# EAGLE library part R9A07G063U02GBG#BC0 (library R9A07G063U02GBG#BC0)
The RZ/A3UL allows customers to achieve the full potential of a real-time operating system (RTOS) while leveraging the performance boost provided by the 64-bit Arm Cortex-A55 CPU core with a maximum operating frequency of 1 GHz. It integrates an Octal-SPI memory interface that facilitates simpler and more compact board designs. In addition, it includes versions that support a DDR3L/DDR4 memory interface to enable connection of high-speed DRAM.Using an RTOS allows systems to start up instantly, in less tha Source: Datasheet <https://www.renesas.com/us/en/products/microcontrollers-microprocessors/rz-mpus/rza3ul-powerful-1ghz-64-bit-mpus-rtos-support-enables-high-definition-hmi-and-quick-startup>
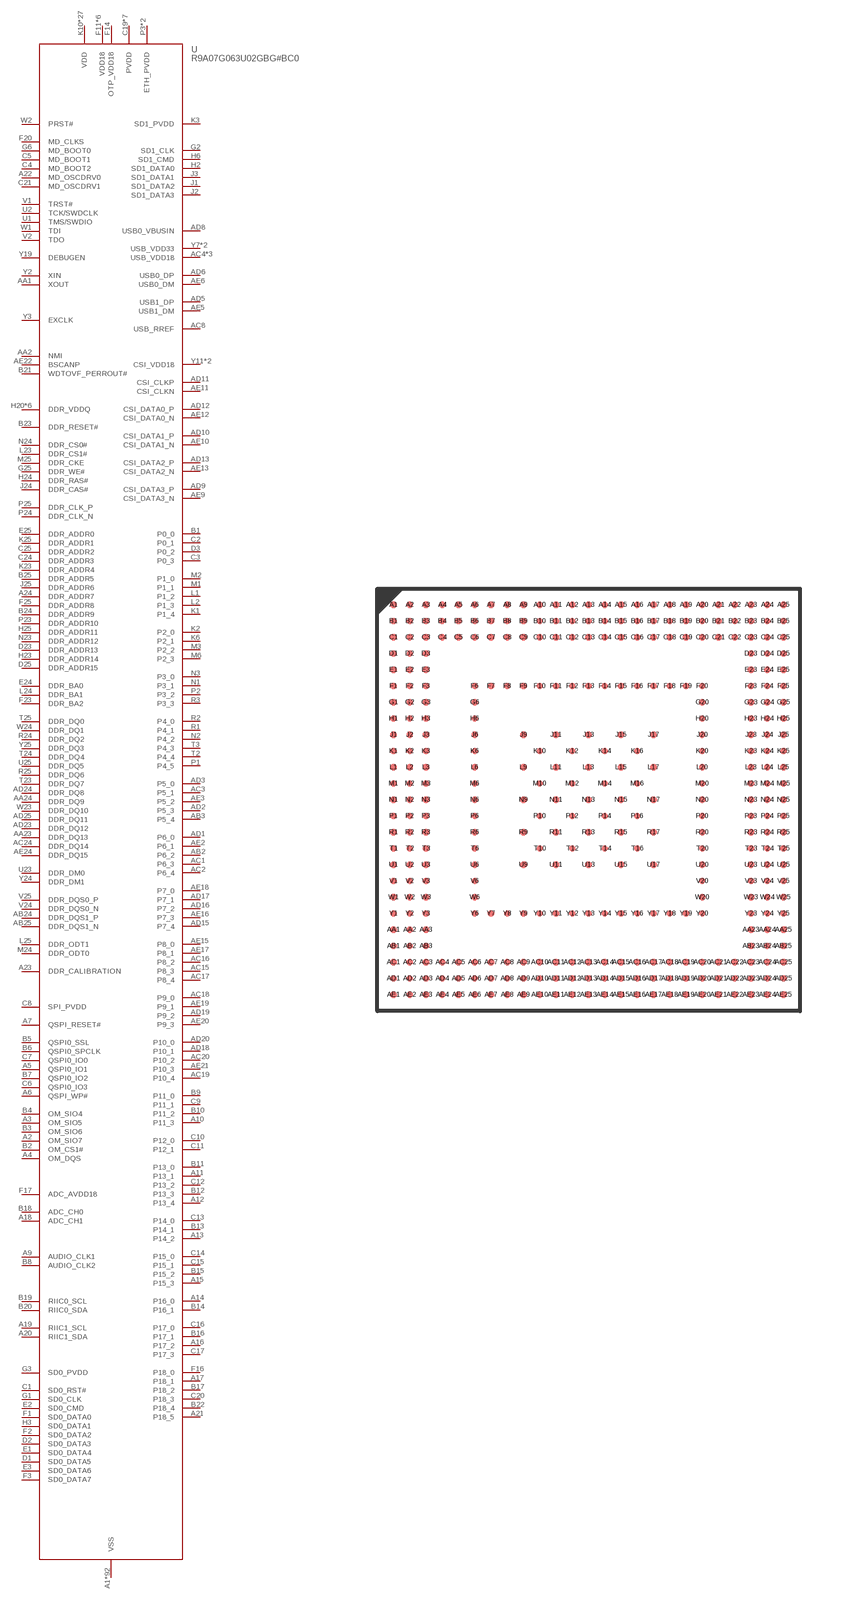
[diagram p0: symbol with the pads of BGA361C50P25X25_1300X1300X140; footprint BGA361C50P25X25_1300X1300X140]

Designator prefix U

## R9A07G063U02GBG#BC0 (DIGIKEY: 559-R9A07G063U02GBG#AC0-ND; HEIGHT: 1.4; PRICE_PER: 11.16; VALUE: R9A07G063U02GBG#BC0)  [BGA361C50P25X25_1300X1300X140]
A1  VSS
A2  OM_SIO7
A3  OM_SIO5
A4  OM_DQS
A5  QSPI0_IO1
A6  QSPI_WP#
A7  QSPI_RESET#
A8  VSS
A9  AUDIO_CLK1
A10  P11_3
A11  P13_1
A12  P13_4
A13  P14_2
A14  P16_0
A15  P15_3
A16  P17_2
A17  P18_1
A18  ADC_CH1
A19  RIIC1_SCL
A20  RIIC1_SDA
A21  P18_5
A22  MD_OSCDRV0
A23  DDR_CALIBRATION
A24  DDR_ADDR7
A25  VSS
AA1  XOUT
AA2  NMI
AA3  VSS
AA23  DDR_DQ13
AA24  DDR_DQ9
AA25  VSS
AB1  VSS
AB2  P6_2
AB3  P5_4
AB23  VSS
AB24  DDR_DQS1_P
AB25  DDR_DQS1_N
AC1  P6_3
AC2  P6_4
AC3  P5_1
AC4  USB_VDD18
AC5  USB_VDD18
AC6  VSS
AC7  VSS
AC8  USB_RREF
AC9  USB_VDD18
AC10  VSS
AC11  VSS
AC12  VSS
AC13  VSS
AC14  VSS
AC15  P8_3
AC16  P8_2
AC17  P8_4
AC18  P9_0
AC19  P10_4
AC20  P10_2
AC21  VSS
AC22  VSS
AC23  VSS
AC24  DDR_DQ14
AC25  VSS
AD1  P6_0
AD2  P5_3
AD3  P5_0
AD4  VSS
AD5  USB1_DP
AD6  USB0_DP
AD7  VSS
AD8  USB0_VBUSIN
AD9  CSI_DATA3_P
AD10  CSI_DATA1_P
AD11  CSI_CLKP
AD12  CSI_DATA0_P
AD13  CSI_DATA2_P
AD14  VSS
AD15  P7_4
AD16  P7_2
AD17  P7_1
AD18  P10_1
AD19  P9_2
AD20  P10_0
AD21  VSS
AD22  VSS
AD23  DDR_DQ12
AD24  DDR_DQ8
AD25  DDR_DQ11
AE1  VSS
AE2  P6_1
AE3  P5_2
AE4  VSS
AE5  USB1_DM
AE6  USB0_DM
AE7  VSS
AE8  VSS
AE9  CSI_DATA3_N
AE10  CSI_DATA1_N
AE11  CSI_CLKN
AE12  CSI_DATA0_N
AE13  CSI_DATA2_N
AE14  VSS
AE15  P8_0
AE16  P7_3
AE17  P8_1
AE18  P7_0
AE19  P9_1
AE20  P9_3
AE21  P10_3
AE22  BSCANP
AE23  VSS
AE24  DDR_DQ15
AE25  VSS
B1  P0_0
B2  OM_CS1#
B3  OM_SIO6
B4  OM_SIO4
B5  QSPI0_SSL
B6  QSPI0_SPCLK
B7  QSPI0_IO2
B8  AUDIO_CLK2
B9  P11_0
B10  P11_2
B11  P13_0
B12  P13_3
B13  P14_1
B14  P16_1
B15  P15_2
B16  P17_1
B17  P18_2
B18  ADC_CH0
B19  RIIC0_SCL
B20  RIIC0_SDA
B21  WDTOVF_PERROUT#
B22  P18_4
B23  DDR_RESET#
B24  DDR_ADDR9
B25  DDR_ADDR5
C1  SD0_RST#
C2  P0_1
C3  P0_3
C4  MD_BOOT2
C5  MD_BOOT1
C6  QSPI0_IO3
C7  QSPI0_IO0
C8  SPI_PVDD
C9  P11_1
C10  P12_0
C11  P12_1
C12  P13_2
C13  P14_0
C14  P15_0
C15  P15_1
C16  P17_0
C17  P17_3
C18  VSS
C19  PVDD
C20  P18_3
C21  MD_OSCDRV1
C22  VSS
C23  VSS
C24  DDR_ADDR3
C25  DDR_ADDR2
D1  SD0_DATA5
D2  SD0_DATA3
D3  P0_2
D23  DDR_ADDR13
D24  VSS
D25  DDR_ADDR15
E1  SD0_DATA4
E2  SD0_CMD
E3  SD0_DATA6
E23  VSS
E24  DDR_BA0
E25  DDR_ADDR0
F1  SD0_DATA0
F2  SD0_DATA2
F3  SD0_DATA7
F6  VSS
F7  VSS
F8  VSS
F9  PVDD
F10  VSS
F11  VDD18
F12  VSS
F13  PVDD
F14  OTP_VDD18
F15  VSS
F16  P18_0
F17  ADC_AVDD18
F18  VSS
F19  PVDD
F20  MD_CLKS
F23  DDR_BA2
F24  VSS
F25  DDR_ADDR8
G1  SD0_CLK
G2  SD1_CLK
G3  SD0_PVDD
G6  MD_BOOT0
G20  VSS
G23  VSS
G24  VSS
G25  DDR_WE#
H1  VSS
H2  SD1_DATA0
H3  SD0_DATA1
H6  SD1_CMD
H20  DDR_VDDQ
H23  DDR_ADDR14
H24  DDR_RAS#
H25  DDR_ADDR11
J1  SD1_DATA2
J2  SD1_DATA3
J3  SD1_DATA1
J6  VSS
J9  VSS
J11  VSS
J13  VSS
J15  VSS
J17  VSS
J20  VSS
J23  VSS
J24  DDR_CAS#
J25  DDR_ADDR6
K1  P1_4
K2  P2_0
K3  SD1_PVDD
K6  P2_1
K10  VDD
K12  VDD
K14  VDD
K16  VDD
K20  DDR_VDDQ
K23  DDR_ADDR4
K24  VSS
K25  DDR_ADDR1
L1  P1_2
L2  P1_3
L3  VDD18
L6  VSS
L9  VSS
L11  VDD
L13  VDD
L15  VDD
L17  VSS
L20  VSS
L23  DDR_CS1#
L24  DDR_BA1
L25  DDR_ODT1
M1  P1_1
M2  P1_0
M3  P2_2
M6  P2_3
M10  VDD
M12  VDD
M14  VDD
M16  VDD
M20  DDR_VDDQ
M23  VSS
M24  DDR_ODT0
M25  DDR_CKE
N1  P3_1
N2  P4_2
N3  P3_0
N6  VSS
N9  VSS
N11  VDD
N13  VDD
N15  VDD
N17  VDD18
N20  VSS
N23  DDR_ADDR12
N24  DDR_CS0#
N25  VSS
P1  P4_5
P2  P3_2
P3  ETH_PVDD
P6  VDD18
P10  VDD
P12  VDD
P14  VDD
P16  VDD
P20  VSS
P23  DDR_ADDR10
P24  DDR_CLK_N
P25  DDR_CLK_P
R1  P4_1
R2  P4_0
R3  P3_3
R6  VSS
R9  VSS
R11  VDD
R13  VDD
R15  VDD
R17  VSS
R20  DDR_VDDQ
R23  VSS
R24  DDR_DQ2
R25  DDR_DQ6
T1  VSS
T2  P4_4
T3  P4_3
T6  VDD
T10  VDD
T12  VDD
T14  VDD
T16  VDD
T20  VSS
T23  DDR_DQ7
T24  DDR_DQ4
T25  DDR_DQ0
U1  TMS/SWDIO
U2  TCK/SWDCLK
U3  VDD18
U6  VSS
U9  VSS
U11  VSS
U13  VSS
U15  VSS
U17  VSS
U20  DDR_VDDQ
U23  DDR_DM0
U24  VSS
U25  DDR_DQ5
V1  TRST#
V2  TDO
V3  VSS
V6  VSS
V20  VSS
V23  VSS
V24  DDR_DQS0_N
V25  DDR_DQS0_P
W1  TDI
W2  PRST#
W3  VSS
W6  PVDD
W20  DDR_VDDQ
W23  DDR_DQ10
W24  DDR_DQ1
W25  VSS
Y1  VSS
Y2  XIN
Y3  EXCLK
Y6  VSS
Y7  USB_VDD33
Y8  USB_VDD33
Y9  VSS
Y10  PVDD
Y11  CSI_VDD18
Y12  CSI_VDD18
Y13  VSS
Y14  VDD18
Y15  VDD
Y16  VSS
Y17  ETH_PVDD
Y18  PVDD
Y19  DEBUGEN
Y20  VSS
Y23  VSS
Y24  DDR_DM1
Y25  DDR_DQ3

## Footprint BGA361C50P25X25_1300X1300X140 (pad centres in mm)
BGA-361
smd 0.2 x 0.2: A1 -6,6; A2 -5.5,6; A3 -5,6; A4 -4.5,6; A5 -4,6; A6 -3.5,6; A7 -3,6; A8 -2.5,6; A9 -2,6; A10 -1.5,6; A11 -1,6; A12 -0.5,6; A13 0,6; A14 0.5,6; A15 1,6; A16 1.5,6; A17 2,6; A18 2.5,6; A19 3,6; A20 3.5,6; A21 4,6; A22 4.5,6; A23 5,6; A24 5.5,6; A25 6,6; AA1 -6,-4; AA2 -5.5,-4; AA3 -5,-4; AA23 5,-4; AA24 5.5,-4; AA25 6,-4; AB1 -6,-4.5; AB2 -5.5,-4.5; AB3 -5,-4.5; AB23 5,-4.5; AB24 5.5,-4.5; AB25 6,-4.5; AC1 -6,-5; AC2 -5.5,-5; AC3 -5,-5; AC4 -4.5,-5; AC5 -4,-5; AC6 -3.5,-5; AC7 -3,-5; AC8 -2.5,-5; AC9 -2,-5; AC10 -1.5,-5; AC11 -1,-5; AC12 -0.5,-5; AC13 0,-5; AC14 0.5,-5; AC15 1,-5; AC16 1.5,-5; AC17 2,-5; AC18 2.5,-5; AC19 3,-5; AC20 3.5,-5; AC21 4,-5; AC22 4.5,-5; AC23 5,-5; AC24 5.5,-5; AC25 6,-5; AD1 -6,-5.5; AD2 -5.5,-5.5; AD3 -5,-5.5; AD4 -4.5,-5.5; AD5 -4,-5.5; AD6 -3.5,-5.5; AD7 -3,-5.5; AD8 -2.5,-5.5; AD9 -2,-5.5; AD10 -1.5,-5.5; AD11 -1,-5.5; AD12 -0.5,-5.5; AD13 0,-5.5; AD14 0.5,-5.5; AD15 1,-5.5; AD16 1.5,-5.5; AD17 2,-5.5; AD18 2.5,-5.5; AD19 3,-5.5; AD20 3.5,-5.5; AD21 4,-5.5; AD22 4.5,-5.5; AD23 5,-5.5; AD24 5.5,-5.5; AD25 6,-5.5; AE1 -6,-6; AE2 -5.5,-6; AE3 -5,-6; AE4 -4.5,-6; AE5 -4,-6; AE6 -3.5,-6; AE7 -3,-6; AE8 -2.5,-6; AE9 -2,-6; AE10 -1.5,-6; AE11 -1,-6; AE12 -0.5,-6; AE13 0,-6; AE14 0.5,-6; AE15 1,-6; AE16 1.5,-6; AE17 2,-6; AE18 2.5,-6; AE19 3,-6; AE20 3.5,-6; AE21 4,-6; AE22 4.5,-6; AE23 5,-6; AE24 5.5,-6; AE25 6,-6; B1 -6,5.5; B2 -5.5,5.5; B3 -5,5.5; B4 -4.5,5.5; B5 -4,5.5; B6 -3.5,5.5; B7 -3,5.5; B8 -2.5,5.5; B9 -2,5.5; B10 -1.5,5.5; B11 -1,5.5; B12 -0.5,5.5; B13 0,5.5; B14 0.5,5.5; B15 1,5.5; B16 1.5,5.5; B17 2,5.5; B18 2.5,5.5; B19 3,5.5; B20 3.5,5.5; B21 4,5.5; B22 4.5,5.5; B23 5,5.5; B24 5.5,5.5; B25 6,5.5; C1 -6,5; C2 -5.5,5; C3 -5,5; C4 -4.5,5; C5 -4,5; C6 -3.5,5; C7 -3,5; C8 -2.5,5; C9 -2,5; C10 -1.5,5; C11 -1,5; C12 -0.5,5; C13 0,5; C14 0.5,5; C15 1,5; C16 1.5,5; C17 2,5; C18 2.5,5; C19 3,5; C20 3.5,5; C21 4,5; C22 4.5,5; C23 5,5; C24 5.5,5; C25 6,5; D1 -6,4.5; D2 -5.5,4.5; D3 -5,4.5; D23 5,4.5; D24 5.5,4.5; D25 6,4.5; E1 -6,4; E2 -5.5,4; E3 -5,4; E23 5,4; E24 5.5,4; E25 6,4; F1 -6,3.5; F2 -5.5,3.5; F3 -5,3.5; F6 -3.5,3.5; F7 -3,3.5; F8 -2.5,3.5; F9 -2,3.5; F10 -1.5,3.5; F11 -1,3.5; F12 -0.5,3.5; F13 0,3.5; F14 0.5,3.5; F15 1,3.5; F16 1.5,3.5; F17 2,3.5; F18 2.5,3.5; F19 3,3.5; F20 3.5,3.5; F23 5,3.5; F24 5.5,3.5; F25 6,3.5; G1 -6,3; G2 -5.5,3; G3 -5,3; G6 -3.5,3; G20 3.5,3; G23 5,3; G24 5.5,3; G25 6,3; H1 -6,2.5; H2 -5.5,2.5; H3 -5,2.5; H6 -3.5,2.5; H20 3.5,2.5; H23 5,2.5; H24 5.5,2.5; H25 6,2.5; J1 -6,2; J2 -5.5,2; J3 -5,2; J6 -3.5,2; J9 -2,2; J11 -1,2; J13 0,2; J15 1,2; J17 2,2; J20 3.5,2; J23 5,2; J24 5.5,2; J25 6,2; K1 -6,1.5; K2 -5.5,1.5; K3 -5,1.5; K6 -3.5,1.5; K10 -1.5,1.5; K12 -0.5,1.5; K14 0.5,1.5; K16 1.5,1.5; K20 3.5,1.5; K23 5,1.5; K24 5.5,1.5; K25 6,1.5; L1 -6,1; L2 -5.5,1; L3 -5,1; L6 -3.5,1; L9 -2,1; L11 -1,1; L13 0,1; L15 1,1; L17 2,1; L20 3.5,1; L23 5,1; L24 5.5,1; L25 6,1; M1 -6,0.5; M2 -5.5,0.5; M3 -5,0.5; M6 -3.5,0.5; M10 -1.5,0.5; M12 -0.5,0.5; M14 0.5,0.5; M16 1.5,0.5; M20 3.5,0.5; M23 5,0.5; M24 5.5,0.5; M25 6,0.5; N1 -6,0; N2 -5.5,0; N3 -5,0; N6 -3.5,0; N9 -2,0; N11 -1,0; N13 0,0; N15 1,0; N17 2,0; N20 3.5,0; N23 5,0; N24 5.5,0; N25 6,0; P1 -6,-0.5; P2 -5.5,-0.5; P3 -5,-0.5; P6 -3.5,-0.5; P10 -1.5,-0.5; P12 -0.5,-0.5; P14 0.5,-0.5; P16 1.5,-0.5; P20 3.5,-0.5; P23 5,-0.5; P24 5.5,-0.5; P25 6,-0.5; R1 -6,-1; R2 -5.5,-1; R3 -5,-1; R6 -3.5,-1; R9 -2,-1; R11 -1,-1; R13 0,-1; R15 1,-1; R17 2,-1; R20 3.5,-1; R23 5,-1; R24 5.5,-1; R25 6,-1; T1 -6,-1.5; T2 -5.5,-1.5; T3 -5,-1.5; T6 -3.5,-1.5; T10 -1.5,-1.5; T12 -0.5,-1.5; T14 0.5,-1.5; T16 1.5,-1.5; T20 3.5,-1.5; T23 5,-1.5; T24 5.5,-1.5; T25 6,-1.5; U1 -6,-2; U2 -5.5,-2; U3 -5,-2; U6 -3.5,-2; U9 -2,-2; U11 -1,-2; U13 0,-2; U15 1,-2; U17 2,-2; U20 3.5,-2; U23 5,-2; U24 5.5,-2; U25 6,-2; V1 -6,-2.5; V2 -5.5,-2.5; V3 -5,-2.5; V6 -3.5,-2.5; V20 3.5,-2.5; V23 5,-2.5; V24 5.5,-2.5; V25 6,-2.5; W1 -6,-3; W2 -5.5,-3; W3 -5,-3; W6 -3.5,-3; W20 3.5,-3; W23 5,-3; W24 5.5,-3; W25 6,-3; Y1 -6,-3.5; Y2 -5.5,-3.5; Y3 -5,-3.5; Y6 -3.5,-3.5; Y7 -3,-3.5; Y8 -2.5,-3.5; Y9 -2,-3.5; Y10 -1.5,-3.5; Y11 -1,-3.5; Y12 -0.5,-3.5; Y13 0,-3.5; Y14 0.5,-3.5; Y15 1,-3.5; Y16 1.5,-3.5; Y17 2,-3.5; Y18 2.5,-3.5; Y19 3,-3.5; Y20 3.5,-3.5; Y23 5,-3.5; Y24 5.5,-3.5; Y25 6,-3.5